# Altium schematic symbol library UWRT_Schematic_Library_2020.SchLib: 766 symbols (part 2 of 8)
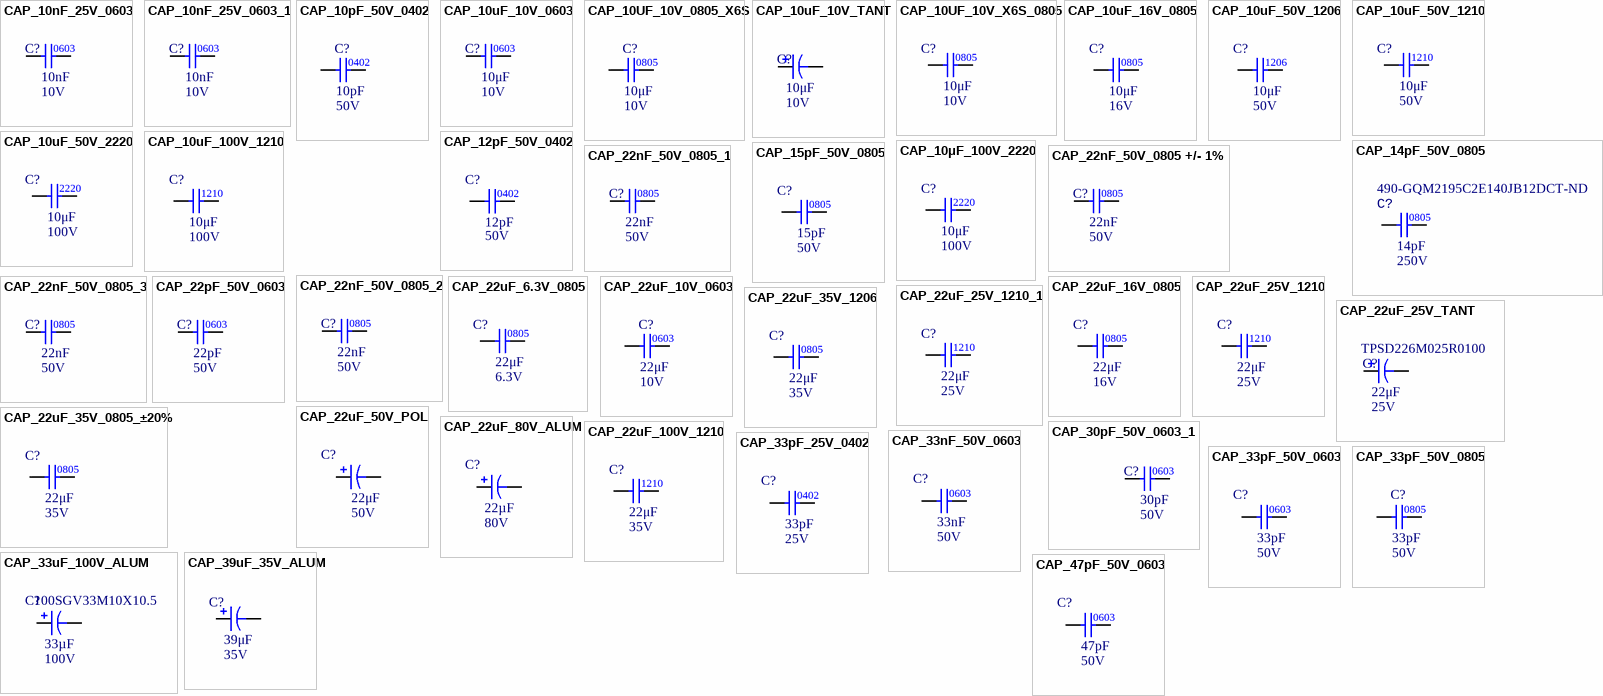
[diagram p26: symbols CAP_10nF_25V_0603 to CAP_47pF_50V_0603]

## CAP_33nF_50V_0603
designator C?  value 33nF  Voltage Rating: 50V
CAP CER 0.033UF 50V X7R 0603; Manufacturer 1: TDK Corporation; Manufacturer Part Number 1: CGA3E2X7R1H333K080AA; Package/Footprint: 0603; Supplier 1: Digi-Key; Mounting Type: SMD; Dielectric: X7R; Supplier Part Number 1: 445-6924-1-ND
footprint CAP0603
pins: 1, 2

## CAP_33pF_25V_0402
designator C?  value 33pF  Voltage Rating: 25V
CAP CER 33PF 25V C0G/NP0 0402; Manufacturer 1: AVX Corporation; Manufacturer Part Number 1: 04023A330JAT2A; Dielectric: C0G; Supplier 1: Digi-Key; Mounting Type: SMD; Supplier Part Number 1: 478-12613-1-ND; Package: 0402
footprint CAP0402 (Chip Capacitor, Body 1x0.5mm, Height 0.35mm, IPC Medium Density)
pins: 1, 2

## CAP_33pF_50V_0603
designator C?  value 33pF  Voltage Rating: 50V
CAP CER 33PF 50V C0G/NP0; Manufacturer 1: Yageo; Manufacturer Part Number 1: CC0603JRNPO9BN330; Package/Footprint: 0603; Dielectric: C0G; Supplier 1: Digi-Key; Mounting Type: SMD; Supplier Part Number 1: 311-1064-1-ND
footprint CAP0603
pins: 1, 2

## CAP_33pF_50V_0805
designator C?  value 33pF  Voltage Rating: 50V
CAP CER 33PF 50V C0G/NP0 0805; Manufacturer 1: Samsung Electro-Mechanics; Manufacturer Part Number 1: CL21C330JBANNNC; Dielectric: C0G/NP0; Mounting Type: SMD; Supplier 1: Digi-Key; Supplier Part Number 1: 1276-1105-1-ND; Package: 0805
footprint CAP0805 (Chip Capacitor, Body 2.0x1.2mm, Height 0.45mm, IPC Medium Density)
pins: 1, 2

## CAP_33uF_100V_ALUM
designator C?  value 33µF  Manufacturer Part Number 1: 100SGV33M10X10.5  Voltage Rating: 100V
CAP. ALUM 33UF 100V 20% SMD; Manufacturer 1: RubyCon; Mounting Type: SMD; Package/Footprint: SMD; Supplier 1: Digi-Key; Supplier Part Number 1: 1189-2387-1-ND
footprint CAP_J-V_8X10P5_RUB-M
pins: 1, 2

## CAP_39uF_35V_ALUM
designator C?  value 39μF  Voltage Rating: 35V
CAP ALUM POLY 39UF 20% 35V SMD; Manufacturer 1: Panasonic; Manufacturer Part Number 1: 35SVPF39M; Supplier 1: Digi-Key; Supplier Part Number 1: P16561CT-ND
footprint RADIAL_PANASONIC_E7 (Size E7 radial surface mount capacitor)
pins: 1, 2

## CAP_47pF_50V_0603
designator C?  value 47pF  Voltage Rating: 50V
CAP CER 47PF 50V C0G/NP0 0603; Manufacturer 1: Samsung Electro-Mechanics; Manufacturer Part Number 1: CL10C470JB8NNNC; Package/Footprint: 0603; Dielectric: C0G; Supplier 1: Digi-Key; Mounting Type: SMD; Supplier Part Number 1: 1276-1037-1-ND
footprint CAP0603
pins: 1, 2

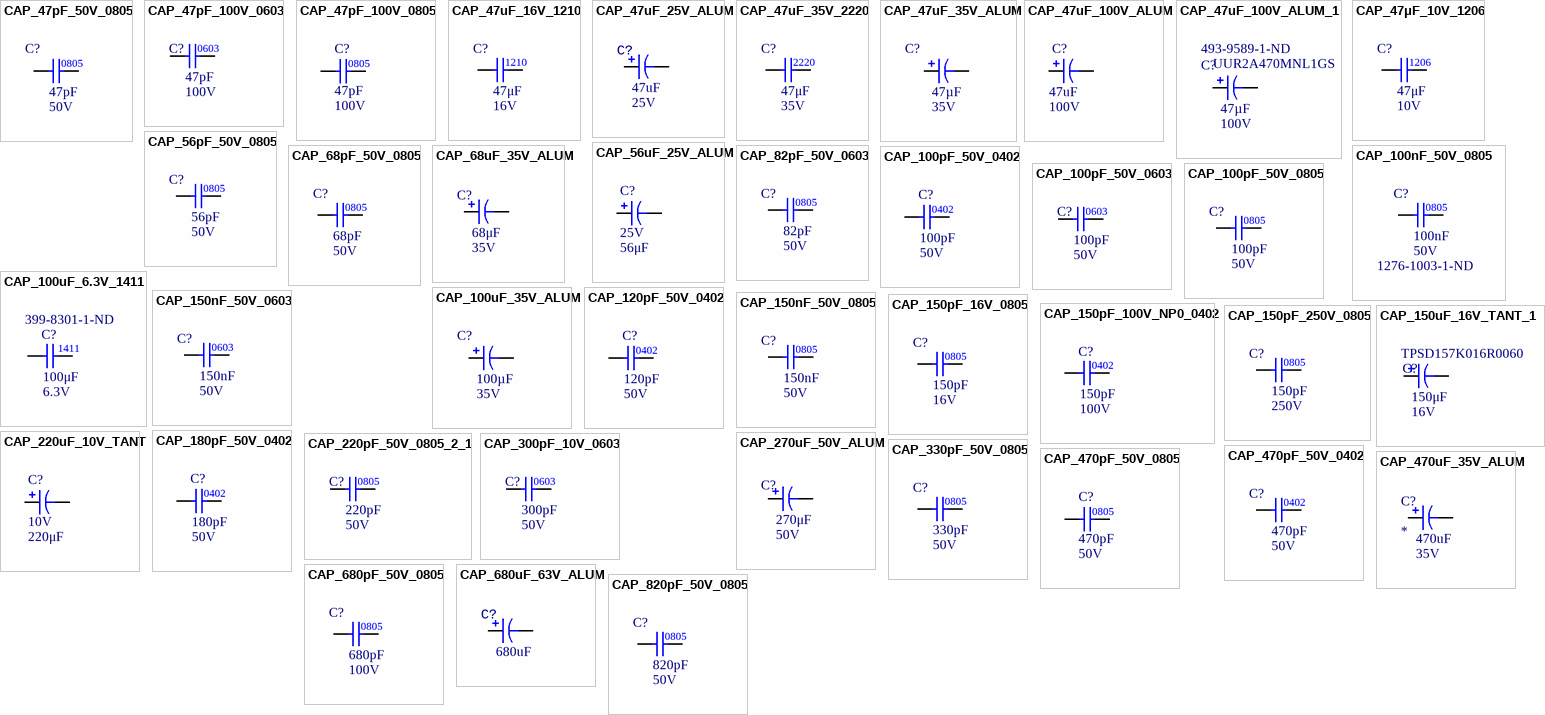
[diagram p4: symbols CAP_47pF_50V_0805 to CAP_820pF_50V_0805]

## CAP_47pF_50V_0805
designator C?  value 47pF  Voltage Rating: 50V
CAP CER 47PF 50V C0G/NPO 0805; Manufacturer 1: YAGEO; Manufacturer Part Number 1: CC0805JRNPO9BN470; Package/Footprint: 0805; Dielectric: C0G; Supplier 1: Digi-Key; Mounting Type: SMD; Supplier Part Number 1: 311-1107-1-ND
footprint CAP0603
footprint CAP0805 (Chip Capacitor, Body 2.0x1.2mm, Height 0.45mm, IPC Medium Density)
pins: 1, 2

## CAP_47pF_100V_0603
designator C?  value 47pF  Voltage Rating: 100V
CAP CER 47PF 100V C0G/NP0 0603; Manufacturer Part Number 1: C0603C470J1GACTU; Manufacturer 1: KEMET; Dielectric: C0G, NP0; Supplier Part Number 1: 399-7917-1-ND; Supplier 1: Digi-Key
footprint CAP0603
pins: 1, 2
text: 0603

## CAP_47pF_100V_0805
designator C?  value 47pF  Voltage Rating: 100V
CAP CER 47PF 100V NPO 0805; Manufacturer 1: Yageo; Manufacturer Part Number 1: AC0805JRNPO0BN470; Package/Footprint: 0805; Supplier 1: Digi-Key; Mounting Type: SMD; Supplier Part Number 1: 311-3131-1-ND
footprint CAP2012
pins: 1, 2

## CAP_47uF_16V_1210
designator C?  value 47μF  Voltage Rating: 16V
CAP CER 47uF 16V X5R 1210; Manufacturer 1: Murata Electronics; Manufacturer Part Number 1: GRM32ER61C476KE15L; Package/Footprint: 1210; Supplier 1: Digi-Key; Supplier Part Number 1: 490-6539-6-ND; Mounting Type: SMD
footprint CAPC3225X270N
pins: 1, 2

## CAP_47uF_25V_ALUM
designator C?  value 47uF  Voltage: 25V
CAP ALUM POLY 47UF 20% 25V SMD; Manufacturer 1: Panasonic Electronic Components; Manufacturer Part Number 1: 25SVPF47M; Supplier 1: DigiKey; Supplier Part Number 1: P16513CT-ND; Mounting Type: SMD
footprint CAP_47uF_25V_ALUM (Aluminum Electrolytic Capacitor, Body 6.60x6.60x6.00mm, IPC Low Density)
pins: 1, 2

## CAP_47uF_35V_2220
designator C?  value 47μF  Voltage Rating: 35V
CAP CER 47UF 35V X7R 2220; Manufacturer 1: TDK Corporation; Manufacturer Part Number 1: CGA9N1X7R1V476M230KC; Package/Footprint: 2220; Supplier 1: Digi-Key; Supplier Part Number 1: 445-CGA9N1X7R1V476M230KCCT-ND; Mounting Type: SMD
footprint CAPC3225X270N
footprint CAP2220
pins: 1, 2

## CAP_47uF_35V_ALUM
designator C?  value 47µF  Voltage Rating: 35V
CAP ALUM POLY HYB 47UF 35V SMD; Manufacturer 1: Cornell Dubilier Electronics (CDE); Manufacturer Part Number 1: HZA476M035D16T-F; Supplier 1: Digi-Key; Supplier Part Number 1: HZA476M035D16T-FCT-ND; Mounting Type: SMD; Package/Footprint: SMD
footprint RADIAL_CORNELL_D
pins: 1, 2

## CAP_47uF_100V_ALUM
designator C?  Voltage Rating: 100V  Capacitance: 47uF
Aluminum Electrolytic Capacitor, Polarized, Aluminum (wet), 100V, 20% +Tol, 20% -Tol, 47uF, Surface Mount, 5454; Manufacturer: Nichicon; Manufacturer Part Number: UCD2A470MNQ1MS; Dielectric Material: Aluminium; Leakage Current: 47uA; Ripple Current: 250mA; Tan Delta: 0.07; ComponentLink1URL: https://datasheet.ciiva.com:443/pdfs/VipMasterIC/IC/NICH/NICH-S-A0003527725/NICH-S-A0003527725-1.pdf?src-supplier=IHS+Markit; ComponentLink1Description: https://datasheet.ciiva.com:443/pdfs/VipMasterIC/IC/NICH/NICH-S-A0003527725/NICH-S-A0003527725-1.pdf?src-supplier=IHS+Markit; ComponentLink2URL: https://datasheet.ciiva.com/11776/0900766b80ebdadd-11776792.pdf?src-supplier=RSComponents; ComponentLink2Description: https://datasheet.ciiva.com/11776/0900766b80ebdadd-11776792.pdf?src-supplier=RSComponents; ComponentLink3URL: https://datasheet.ciiva.com/30526/getdatasheetpartid-513218-30526979.pdf?src-supplier=Verical; ComponentLink3Description: https://datasheet.ciiva.com/30526/getdatasheetpartid-513218-30526979.pdf?src-supplier=Verical; ComponentLink4URL: https://datasheet.ciiva.com/16389/e-cd-16389182.pdf?src-supplier=Future+Electronics; ComponentLink4Description: https://datasheet.ciiva.com/16389/e-cd-16389182.pdf?src-supplier=Future+Electronics; ComponentLink5URL: https://datasheet.ciiva.com/17523/e-cd-17523974.pdf?src-supplier=Avnet+Europe; ComponentLink5Description: https://datasheet.ciiva.com/17523/e-cd-17523974.pdf?src-supplier=Avnet+Europe; ComponentLink6URL: https://datasheet.ciiva.com/6326/e-cd-6326630.pdf?src-supplier=Digi-Key; ComponentLink6Description: https://datasheet.ciiva.com/6326/e-cd-6326630.pdf?src-supplier=Digi-Key; ComponentLink7URL: https://datasheet.ciiva.com/6326/e-cd-6326632.pdf?src-supplier=Digi-Key; ComponentLink7Description: https://datasheet.ciiva.com/6326/e-cd-6326632.pdf?src-supplier=Digi-Key; ComponentLink8URL: https://datasheet.ciiva.com/6326/e-cd-6326634.pdf?src-supplier=Digi-Key; ComponentLink8Description: https://datasheet.ciiva.com/6326/e-cd-6326634.pdf?src-supplier=Digi-Key; Supplier 1: Digi-Key; RoHS: Yes; Category: Aluminum Electrolytic Capacitors; Stock 1: 515; Pricing 1: 1=2.15000, 10=1.69800, 50=1.47140, 100=1.27330 (USD); Mount: Surface Mount; Number of Pins: 2; Package Shape: Cylindrical; Size Code: 7575; Terminal Finish: Copper; Min Operating Temperature: -55°C; Max Operating Temperature: 105°C; JESD-609 Code: e3; Polarity: Polarized; Capacitor Type: Aluminium; Negative Tolerance: 20%; Package Style: SMTMeter; Packaging: Tape and Reel; Positive Tolerance: 20%; Rated DC Voltage (URdc): 100V; Termination: Flat; Length: 14.6mm; Width: 13.6mm; Height: 13.5mm; REACH SVHC: Yes; RoHS Compliant: Yes; Supplier Part Number 1: 493-6201-1-ND
footprint RADIAL_CORNELL_D (Size D radial surface mount capacitor)
pins: 1, 2

## CAP_47uF_100V_ALUM_1
designator C?  value 47µF  Manufacturer Part Number 1: UUR2A470MNL1GS  Voltage Rating: 100V  Supplier Part Number 1: 493-9589-1-ND
CAP ALUM 47UF 20% 100V SMD; Manufacturer 1: Nichicon; Mounting Type: SMD; Package/Footprint: SMD; Supplier 1: Digi-Key
footprint CAP_UCD_10X10_NCH-M
pins: 1, 2

## CAP_47μF_10V_1206
designator C?  value 47μF  Voltage Rating: 10V
CAP CER 47UF 10V X5R 1206; Manufacturer 1: Murata Electronics; Manufacturer Part Number 1: GRM31CR61A476ME15L; Mounting Type: SMD; Package: 1206; Supplier 1: Digi-Key; Supplier Part Number 1: 490-5528-1-ND
footprint CAP1206 (Chip Capacitor, Body 3.2x1.6mm, Height 0.55mm, IPC Medium Density)
pins: 1, 2

## CAP_56pF_50V_0805
designator C?  value 56pF  Voltage Rating: 50V
CAP CER 56PF 50V C0G/NP0; Manufacturer 1: Yageo; Manufacturer Part Number 1: CC0805FRNPO9BN560; Dielectric: C0G, NP0; Supplier 1: Digi-Key; Supplier Part Number 1: 311-4179-1-ND
footprint CAP2012
pins: 1, 2
text: 0805

## CAP_56uF_25V_ALUM
designator C?  value 56μF  Voltage Rating: 25V
CAP ALUM POLY HYB 56UF 25V SMD; Manufacturer Part Number 1: EEH-ZC1E560P; Manufacturer 1: Panasonic Electronic Components; Supplier 1: Digi-Key; Supplier Part Number 1: P15460CT-ND
footprint RADIAL_PANASONIC_D (Size D radial surface mount capacitor)
pins: 1, 2

## CAP_68pF_50V_0805
designator C?  value 68pF  Voltage Rating: 50V
CAP CER 68PF 50V C0G/NP0 0805; Manufacturer 1: Kyocera AVX; Manufacturer Part Number 1: KGM21BCG1H680JT; Package/Footprint: 0805; Supplier 1: Digi-Key; Supplier Part Number 1: 478-KGM21BCG1H680JTDKR-ND
footprint CAP0805 (Chip Capacitor, Body 2.0x1.2mm, Height 0.45mm, IPC Medium Density)
pins: 1, 2

## CAP_68uF_35V_ALUM
designator C?  value 68μF  Voltage Rating: 35V
CAP ALUM 68UF 20% 35V SMD; Manufacturer 1: Nichicon; Manufacturer Part Number 1: UUD1V680MCL1GS; Supplier 1: Digi-Key; Mounting Type: SMD; Supplier Part Number 1: 493-2289-1-ND; Package/Footprint: SMD
footprint RADIAL_NICHION_1V (Size G radial surface mount capacitor)
pins: 1, 2

## CAP_82pF_50V_0603
designator C?  value 82pF  Voltage Rating: 50V
CAP CER 82PF 50V C0G/NPO 0603; Manufacturer 1: Yageo; Manufacturer Part Number 1: CC0603JRNPO9BN820; Dielectric: C0G, NP0; Supplier 1: Digi-Key; Supplier Part Number 1: 311-1068-1-ND
footprint CAP0603
pins: 1, 2
text: 0805

## CAP_100nF_50V_0805
designator C?  value 100nF  Supplier Part Number 1: 1276-1003-1-ND  Voltage Rating: 50V
CAP CER 0.1UF 50V X7R 0805; Manufacturer 1: Samsung Electro-Mechanics; Manufacturer Part Number 1: CL21B104KBCNNNC; Package/Footprint: 0805; Supplier 1: Digi-Key
footprint CAP0805 (Chip Capacitor, Body 2.0x1.2mm, Height 0.45mm, IPC Medium Density)
pins: 1, 2

## CAP_100pF_50V_0402
designator C?  Capacitance: 100pF  Voltage: 50V
CAP CER 100PF 50V X7R 0402; Manufacturer 1: AVX Corporation; Manufacturer Part Number 1: 04025C101KAT2A; Supplier 1: Digi-Key; Supplier Part Number 1: 478-1089-1-ND; Package: 0402
footprint CAP0402 (Chip Capacitor, Body 1x0.5mm, Height 0.35mm, IPC Medium Density)
pins: 1, 2

## CAP_100pF_50V_0603
designator C?  value 100pF  Voltage Rating: 50V
CAP CER 100PF 50V C0G/NP0 0603; Manufacturer Part Number 1: VJ0603A101JXAAC; Manufacturer 1: Vishay Vitramon; Dielectric: C0G, NP0; Supplier Part Number 1: 720-1370-1-ND; Supplier 1: Digi-Key
footprint CAP0603
pins: 1, 2
text: 0603

## CAP_100pF_50V_0805
designator C?  value 100pF  Voltage Rating: 50V
CAP CER 100PF 50V C0G/NP0 0805; Manufacturer 1: KEMET; Manufacturer Part Number 1: C0805C101J5GACTU; Package/Footprint: 0805; Dielectric: C0G, NP0; Mounting Type: SMD; Supplier 1: Digi-Key; Supplier Part Number 1: 399-1122-1-ND
footprint CAP2012
pins: 1, 2

## CAP_100uF_6.3V_1411
designator C?  Capacitance: 100μF  Voltage Rating: 6.3V  Supplier Part Number 1: 399-8301-1-ND
CAP TANT 100UF 6.3V 1411; Manufacturer: KEMET; Manufacturer Part Number: T495B107K006ATE400; Package/Footprint: 1411; Mounting Type: Surface Mount; Supplier 1: Digi-Key
pins: 1, 2

## CAP_100uF_35V_ALUM
designator C?  value 100µF  Voltage Rating: 35V
CAP ALUM 100UF 20% 35V SMD; Manufacturer 1: Rubycon; Manufacturer Part Number 1: 35TKV100M8X10.5; Mounting Type: SMD; Package/Footprint: SMD; Supplier 1: Digi-Key; Supplier Part Number 1: 1189-2074-1-ND
footprint RADIAL_CORNELL_D (Size D radial surface mount capacitor)
pins: 1, 2

## CAP_120pF_50V_0402
designator C?  Capacitance: 120pF  Voltage: 50V
CAP CER 120PF 50V X7R 0402; Manufacturer 1: AVX Corporation; Manufacturer Part Number 1: 04025C121KAT2A; Supplier 1: Digi-Key; Supplier Part Number 1: 478-1090-1-ND; Package: 0402
footprint CAP0402 (Chip Capacitor, Body 1x0.5mm, Height 0.35mm, IPC Medium Density)
pins: 1, 2

## CAP_150nF_50V_0603
designator C?  value 150nF  Voltage Rating: 50V
CAP CER 0.15UF 50V X7R 0603; Manufacturer 1: Yageo; Manufacturer Part Number 1: CC0603KRX7R9BB154; Supplier 1: Digi-Key; Dielectric: X7R; Supplier Part Number 1: 13-CC0603KRX7R9BB154CT-ND
footprint CAP0603
pins: 1, 2
text: 0603

## CAP_150nF_50V_0805
designator C?  value 150nF  Voltage Rating: 50V
CAP CER 0.15UF 50V X7R 0805; Manufacturer 1: Murata Electronics; Manufacturer Part Number 1: CC0603KRX7R9BB154; Supplier 1: Digi-Key; Dielectric: X7R; Supplier Part Number 1: GRM21BR71H154KA01L
footprint CAP0603
footprint CAP0805 (Chip Capacitor, Body 2.0x1.2mm, Height 0.45mm, IPC Medium Density)
pins: 1, 2
text: 0805

## CAP_150pF_16V_0805
designator C?  value 150pF  Voltage Rating: 16V
CAP CER 150PF 16V X7R 0805; Manufacturer 1: Würth Elektronik; Manufacturer Part Number 1: 885012207028; Package/Footprint: 0805; Supplier 1: Digi-Key; Supplier Part Number 1: 732-8028-1-ND
footprint CAP0805 (Chip Capacitor, Body 2.0x1.2mm, Height 0.45mm, IPC Medium Density)
pins: 1, 2

## CAP_150pF_100V_NP0_0402
designator C?  Capacitance: 150pF  Rated DC Voltage (URdc): 100V
CAP CER 150PF 100V C0G/NP0 0402; Manufacturer: Yageo; Manufacturer Part Number: CGA2B2C0G2A151J050BE; Dielectric: X7R; Supplier 1: Digi-Key; Supplier Part Number 1: 445-175654-1-ND; RoHS: Yes; Category: Ceramic Capacitors; Mount: Surface Mount; Package: 0402
footprint CAP0402 (Chip Capacitor, Body 1x0.5mm, Height 0.35mm, IPC Medium Density)
pins: 1, 2

## CAP_150pF_250V_0805
designator C?  value 150pF  Voltage Rating: 250V
CAP CER 150PF 250V C0G/NP0 0805; Manufacturer 1: Murata Electronics; Manufacturer Part Number 1: GRM21A5C2E151JW01D; Dielectric: C0G, NP0; Supplier 1: Digi-Key; Supplier Part Number 1: 490-12755-1-ND
footprint CAP2012
pins: 1, 2
text: 0805

## CAP_150uF_16V_TANT_1
designator C?  value 150μF  Voltage Rating: 16V  Supplier Part Number 1: TPSD157K016R0060
CAP TANT 150UF 10% 16V 2917; Manufacturer 1: Kyocera AVX; Manufacturer Part Number 1: TPSD157K016R0060; Supplier 1: Arrow Electronics
footprint CAP2917
pins: 1, 2

## CAP_180pF_50V_0402
designator C?  Capacitance: 180pF  Voltage: 50V
CAP CER 180PF 50V X7R 0402; Manufacturer 1: AVX Corporation; Manufacturer Part Number 1: 04025C181KAT2A; Supplier 1: Digi-Key; Supplier Part Number 1: 478-1092-1-ND; Package: 0402
footprint CAP0402 (Chip Capacitor, Body 1x0.5mm, Height 0.35mm, IPC Medium Density)
pins: 1, 2

## CAP_220pF_50V_0805_2_1
designator C?  value 220pF  Voltage Rating: 50V
CAP CER 220pF 50V 0805 +/-1%; Manufacturer Part Number 1: CC0805FRNPO9BN221; Manufacturer 1: YAGEO; Supplier Part Number 1: 311-4172-1-ND; Supplier 1: Digi-Key; Mounting Type: SMD; Package: 0805
footprint CAP2012
pins: 1, 2

## CAP_220uF_10V_TANT
designator C?  value 220μF  Voltage Rating: 10V
CAP TANT POLY 220UF 10V 2917; Manufacturer Part Number 1: T55D227M010C0008; Manufacturer 1: Vishay Sprague; Supplier 1: Digi-Key; Supplier Part Number 1: 718-2303-1-ND
footprint CAP2917
pins: 1, 2

## CAP_270uF_50V_ALUM
designator C?  value 270μF  Voltage Rating: 50V
CAP ALUM 270uF 50VDC 20% SMD; Manufacturer 1: Panasonic Electronic Components; Manufacturer Part Number 1: EEE-FN1H271UP; Supplier 1: Digi-Key; Mounting Type: SMD; Supplier Part Number 1: 10-EEE-FN1H271UPCT-ND
footprint RADIAL_PANASONIC_G (Size G radial surface mount capacitor)
pins: 1, 2

## CAP_300pF_10V_0603
designator C?  value 300pF  Voltage Rating: 50V
CAP CER 300PF 50V NP0 0603; Manufacturer Part Number 1: 06035A301JAT2A; Manufacturer 1: KYOCERA AVX; Supplier Part Number 1: 478-10311-1-ND; Supplier 1: Digi-Key; Dielectric: NP0
footprint CAP0603
pins: 1, 2
text: 0603

## CAP_330pF_50V_0805
designator C?  value 330pF  Voltage Rating: 50V
CAP CER 330PF 50V C0G/NPO 0805; Manufacturer 1: Yageo; Manufacturer Part Number 1: CC0805JRNPO9BN331; Package/Footprint: 0805; Supplier 1: Digi-Key; Supplier Part Number 1: 311-1117-1-ND
footprint CAP0805 (Chip Capacitor, Body 2.0x1.2mm, Height 0.45mm, IPC Medium Density)
pins: 1, 2

## CAP_470pF_50V_0402
designator C?  Voltage Rating: 50V  Capacitance: 470pF
CAP CER 470PF 50V X7R 0402; Manufacturer 1: Murata; Manufacturer Part Number 1: GRM155R71H471KA01D; Package/Footprint: 0402; Supplier 1: Digi-Key; Dielectric: X7R; Supplier Part Number 1: 490-1300-1-ND
footprint CAP 0402_1005 (Chip Capacitor, 2-Leads, Body 1.02x0.51mm, IPC Medium Density)
pins: 1, 2

## CAP_470pF_50V_0805
designator C?  value 470pF  Voltage Rating: 50V
CAP CER 470PF 50V X7R 0805; Manufacturer 1: Kyocera AVX; Manufacturer Part Number 1: 08055C471JAT2A; Package/Footprint: 0805; Supplier 1: Digi-Key; Mounting Type: SMD; Supplier Part Number 1: 478-7958-1-ND; Dielectric: X7R
footprint CAP2012
pins: 1, 2

## CAP_470uF_35V_ALUM
designator C?  Voltage: 35V  Capacitance: 470uF
CAP ALUM 470uF 20% 35V SMD; Manufacturer 1: ROQANG; Manufacturer Part Number 1: RVT1V471M1010; Datasheet Link: https://datasheet.lcsc.com/szlcsc/2004031004_ROQANG-RVT1V471M1010_C72519.pdf; Height: 11mm; LCSC Number: C72519
footprint CAPAE1030X1100N
pins: 1, 2

## CAP_680pF_50V_0805
designator C?  value 680pF  Voltage Rating: 100V
CAP CER 680PF 100V C0G/NP0 0805; Manufacturer 1: KYOCERA AVX; Manufacturer Part Number 1: 08051A681JAT2A; Package/Footprint: 0805; Supplier 1: Digi-Key; Supplier Part Number 1: 478-1289-1-ND
footprint CAP0805 (Chip Capacitor, Body 2.0x1.2mm, Height 0.45mm, IPC Medium Density)
pins: 1, 2

## CAP_680uF_63V_ALUM
designator C?  value 680uF
CAP ALUM 680UF 20% 63V RADIAL; Manufacturer 1: United Chemi-Con; Manufacturer Part Number 1: ELXZ630ELL681MM20S; Voltage: 25V; Supplier 1: Digi-Key; Supplier Part Number 1: 565-2050-ND; Mounting Type: SMD
footprint ELXZ630ELL681MM20S (CAP ALUM 680UF 20% 63V RADIAL)
pins: 1, 2

## CAP_820pF_50V_0805
designator C?  Capacitance: 820pF  Voltage Rating: 50V
CAP CER 820PF 50V C0G/NP0 0805; Manufacturer 1: KEMET; Manufacturer Part Number 1: C0805X821J5GAC7800; Package/Footprint: 0805; Supplier 1: Digi-Key; Supplier Part Number 1: 399-19481-1-ND
footprint CAP0805 (Chip Capacitor, Body 2.0x1.2mm, Height 0.45mm, IPC Medium Density)
pins: 1, 2

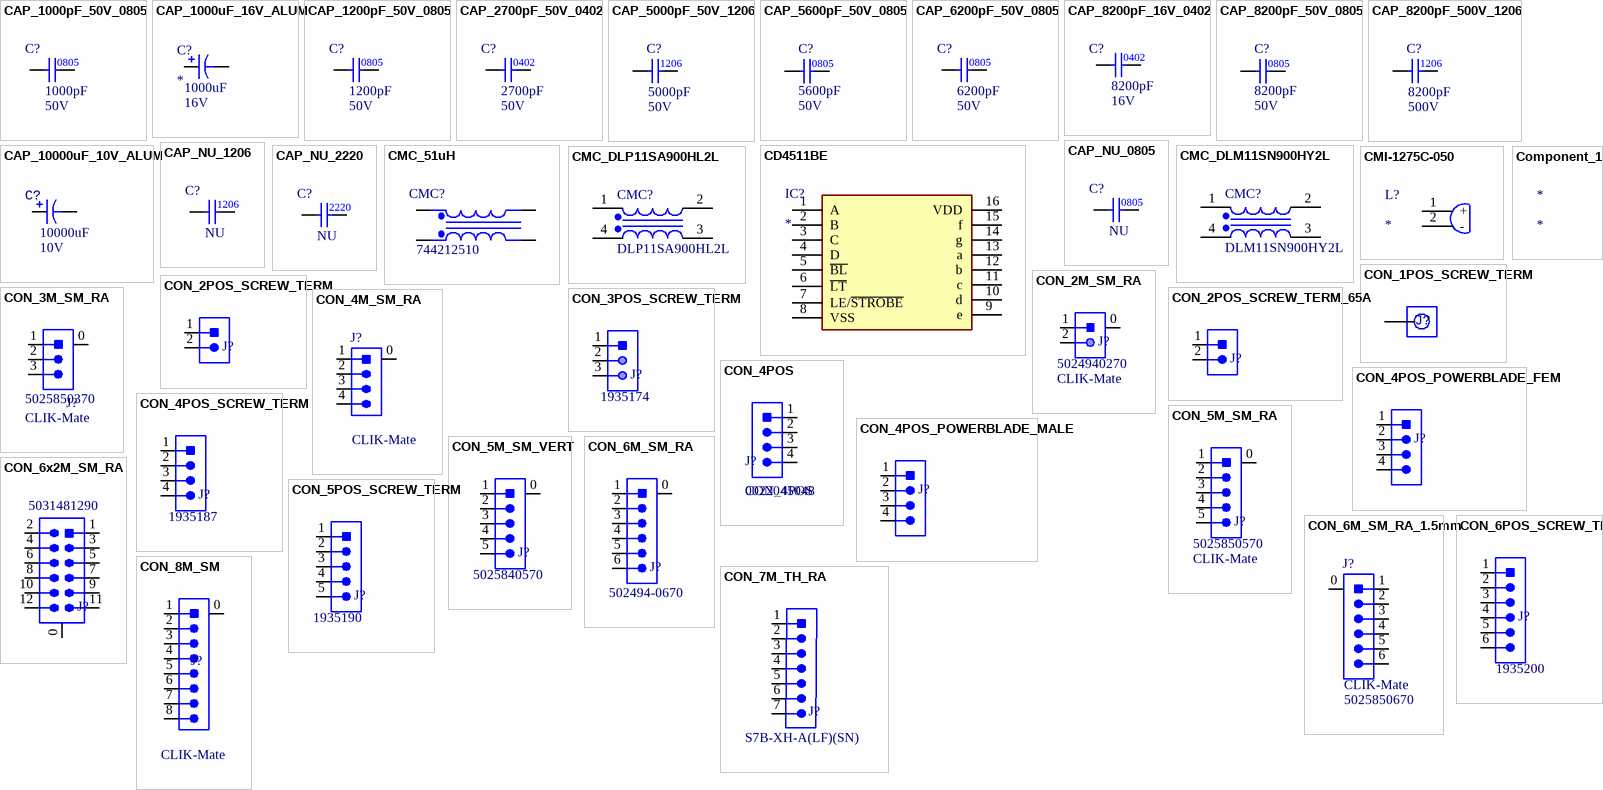
[diagram p5: symbols CAP_1000pF_50V_0805 to CON_8M_SM]

## CAP_1000pF_50V_0805
designator C?  value 1000pF  Voltage Rating: 50V
CAP CER 1000pF 50V X7R 0805; Manufacturer 1: Samsung; Manufacturer Part Number 1: CL21B102KBANNNC; Package/Footprint: 0805; Supplier 1: Digi-Key; Mounting Type: SMD; Supplier Part Number 1: 1276-1020-1-ND; Dielectric: X7R
footprint CAP2012
pins: 1, 2

## CAP_1000uF_16V_ALUM
designator C?  Voltage: 16V  Capacitance: 1000uF
CAP ALUM 1000uF 20% 16V SMD; Manufacturer: Lelon; Manufacturer Part Number 1: VE-102M1CTR-1010; Datasheet Link: https://datasheet.lcsc.com/szlcsc/1811051743_Lelon-VE-102M1CTR-1010_C249474.pdf; Height: 10.5mm; Tolerance: 20%; LCSC Number: C249474
footprint CAPAE1030X1050N
pins: 1, 2

## CAP_1200pF_50V_0805
designator C?  value 1200pF  Voltage Rating: 50V
CAP CER 1200PF 50V X7R 0805; Manufacturer 1: KEMET; Manufacturer Part Number 1: C0805C122K5RAC7800; Package/Footprint: 0805; Supplier 1: Digi-Key; Supplier Part Number 1: 399-C0805C122K5RAC7800CT-ND
footprint CAP0805 (Chip Capacitor, Body 2.0x1.2mm, Height 0.45mm, IPC Medium Density)
pins: 1, 2

## CAP_2700pF_50V_0402
designator C?  Capacitance: 2700pF  Voltage Rating: 50V
CAP CER 2700PF 50V C0G 0805; Manufacturer 1: TDK Corporation; Manufacturer Part Number 1: C2012C0G1H272J060AA; Package: 0805; Supplier 1: Digi-Key; Supplier Part Number 1: 445-7508-1-ND
footprint CAP0402 (Chip Capacitor, Body 1x0.5mm, Height 0.35mm, IPC Medium Density)
pins: 1, 2
text: 0402

## CAP_5000pF_50V_1206
designator C?  Voltage Rating: 50V  Capacitance: 5000pF
CAP CER 5000pF 50V X7R 1206; Manufacturer 1: Kyocera AVX; Manufacturer Part Number 1: 12065C502JAT2A; Supplier 1: Digi-Key; Supplier Part Number 1: 478-11953-1-ND; Dielectric: X7R
footprint CAP1206 (Chip Capacitor, Body 3.2x1.6mm, Height 0.55mm, IPC Medium Density)
pins: 1, 2
text: 1206

## CAP_5600pF_50V_0805
designator C?  Capacitance: 5600pF  Voltage Rating: 50V
CAP CER 5600PF 50V C0G 0805; Manufacturer 1: TDK Corporation; Manufacturer Part Number 1: CGA4C2C0G1H562J060AA; Package/Footprint: 0805; Mounting Type: SMD; Supplier 1: Digi-Key; Supplier Part Number 1: 445-6944-1-ND; Dielectric: C0G
pins: 1, 2

## CAP_6200pF_50V_0805
designator C?  Capacitance: 6200pF  Voltage Rating: 50V
CAP CER 6200PF 50V C0G/NP0 0805; Manufacturer 1: Murata Electronics; Manufacturer Part Number 1: GRM2195C1H622JA01D; Package/Footprint: 0805; Supplier 1: Digi-Key; Supplier Part Number 1: 490-1637-1-ND
footprint CAP0805 (Chip Capacitor, Body 2.0x1.2mm, Height 0.45mm, IPC Medium Density)
pins: 1, 2

## CAP_8200pF_16V_0402
designator C?  Voltage Rating: 16V  Capacitance: 8200pF
CAP CER 8200PF 16V X7R 0402; Manufacturer 1: Murata; Manufacturer Part Number 1: GRM155R71C822KA01D; Dielectric: X7R; Supplier 1: Digi-Key; Supplier Part Number 1: 490-6338-1-ND; Package: 0402
footprint CAP0402 (Chip Capacitor, Body 1x0.5mm, Height 0.35mm, IPC Medium Density)
pins: 1, 2

## CAP_8200pF_50V_0805
designator C?  Capacitance: 8200pF  Voltage Rating: 50V
CAP CER 8200PF 50V X7R 0805; Manufacturer: YAGEO; Manufacturer Part Number: CC0805KRX7R9BB822; Mounting Type: SMD; Package: 0805; Supplier 1: Digi-Key; Supplier Part Number 1: 311-4331-1-ND; Dielectric: X7R
footprint CAP0805 (Chip Capacitor, Body 2.0x1.2mm, Height 0.45mm, IPC Medium Density)
pins: 1, 2

## CAP_8200pF_500V_1206
designator C?  value 8200pF  Voltage Rating: 500V
CAP CER 8200PF 500V C0G 1206; Manufacturer 1: KEMET; Manufacturer Part Number 1: C1206C822JCGACAUTO; Dielectric: C0G, NP0; Supplier 1: Digi-Key; Supplier Part Number 1: 399-14847-1-ND
footprint CAP1206 (Chip Capacitor, Body 3.2x1.6mm, Height 0.55mm, IPC Medium Density)
pins: 1, 2
text: 1206

## CAP_10000uF_10V_ALUM
designator C?  value 10000uF  Voltage Rating: 10V
CAP ALUM 10000UF 20% 10V RADIAL; Manufacturer 1: Nichicon; Manufacturer Part Number 1: URS1A103MHD1TN; Supplier 1: Digi-Key; Mounting Type: TH; Package: TH; Supplier Part Number 1: 493-12364-1-ND; Verified: No
footprint CAP_UBY_18X25_NC
pins: 1, 2

## CAP_NU_0805
designator C?  value NU
PLACEHOLDER CAPACITOR; Mounting Type: SMD; Package: 0805
footprint CAP0805 (Chip Capacitor, Body 2.0x1.2mm, Height 0.45mm, IPC Medium Density)
pins: 1, 2

## CAP_NU_1206
designator C?  value NU
PLACEHOLDER CAPACITOR; Mounting Type: Surface Mount; Package: 1206
footprint CAP1206 (Chip Capacitor, Body 3.2x1.6mm, Height 0.55mm, IPC Medium Density)
pins: 1, 2

## CAP_NU_2220
designator C?  value NU
PLACEHOLDER CAPACITOR; Mounting Type: Surface Mount; Package: 1206
footprint CAP1206 (Chip Capacitor, Body 3.2x1.6mm, Height 0.55mm, IPC Medium Density)
footprint CAP2220
pins: 1, 2
text: 2220

## CD4511BE
designator IC?
Integrated Circuit; Manufacturer_Name: Texas Instruments; Manufacturer Part Number 1: CD4511BE; Datasheet Link: http://www.ti.com/lit/gpn/cd4511b; Height: 5.08mm; Mouser Part Number: 595-CD4511BE; Mouser Price/Stock: https://www.mouser.co.uk/ProductDetail/Texas-Instruments/CD4511BE?qs=pt%2FIv5r0EPdhGGYgwfpYEw%3D%3D; Arrow Part Number: CD4511BE; Arrow Price/Stock: https://www.arrow.com/en/products/cd4511be/texas-instruments?region=nac
footprint DIP794W53P254L1930H508Q16N
pins: 1 A, 2 B, 3 C, 4 D, 5 ~{BL}, 6 ~{LT}, 7 LE/~{STROBE}, 8 VSS, 9 e, 10 d, 11 c, 12 b, 13 a, 14 g, 15 f, 16 VDD

## CMC_51uH
designator CMC?  Manufacturer Part Number 1: 744212510  (hidden comment: CMC_51uH)
CMC 51uH 300MA 2LN SMD; Manufacturer 1: Wurth Electronics; DC Resistance (DCR): 160mR; Test Frequency: 100kHz; Inductance Tolerance: 50%; Voltage Rating (DC): 80V; Number of Lines: 2; Impedance: 300R; Supplier 1: Digi-Key; Package/Footprint: SMD; Number of Pins: 4; Current: 300mA; Max DC Current: 300mA; Mounting Type: SMD; Current Rating: 300mA; Inductance: 51uH; ComponentLink7URL: https://datasheet.ciiva.com/6216/744212510-6216348.pdf?src-supplier=Digi-Key; ComponentLink7Description: https://datasheet.ciiva.com/6216/744212510-6216348.pdf?src-supplier=Digi-Key; ComponentLink8URL: https://datasheet.ciiva.com/7764/1735560-7764951.pdf?src-supplier=Element14; ComponentLink8Description: https://datasheet.ciiva.com/7764/1735560-7764951.pdf?src-supplier=Element14; Supplier Part Number 1: 732-3941-1-ND
footprint 744212510 (CMC HORIZONTAL 4 J-LEAD)
pins: 1 Pri+, 3 Sec+, 4 Sec-, 5 Pri-

## CMC_DLM11SN900HY2L
designator CMC?  Manfuacturer Part Number 1: DLM11SN900HY2L
CMC 100MA 2LN 90 OHM SMD; Manufacturer 1: Murata Electronics; DC Resistance (DCR) (Max): 1.38Ohm; Voltage Rating - DC: 5V; Supplier 1: Digi-Key; Supplier Part Number 1: 490-11941-1-ND; Current Rating (Max): 100mA; Package: 0504
footprint FIL_DLM11SN900HY2L
pins: 1, 2, 3, 4

## CMC_DLP11SA900HL2L
designator CMC?  Manfuacturer Part Number 1: DLP11SA900HL2L
CMC 150MA 2LN 90 OHM SMD; Manufacturer 1: Murata Electronics; DC Resistance (DCR) (Max): 1.75Ohm; Voltage Rating - DC: 5V; Supplier 1: Digi-Key; Supplier Part Number 1: 490-6035-1-ND; Current Rating (Max): 150mA; Package: 0504
footprint FIL_DLP11SA900HL2L
pins: 1, 2, 3, 4

## CMI-1275C-050
designator L?
Inductor; Manufacturer_Name: CUI Inc.; Manufacturer Part Number 1: CMI-1275C-050; Datasheet Link: https://componentsearchengine.com/Datasheets/1/CMI-1275C-050.pdf; Height: 8mm; Mouser Part Number: 490-CMI-1275C-050; Mouser Price/Stock: https://www.mouser.co.uk/ProductDetail/CUI-Devices/CMI-1275C-050?qs=qCxwlXJ4fnyWvfqXc%252BNqAA%3D%3D; Arrow Part Number: CMI-1275C-050; Arrow Price/Stock: https://www.arrow.com/en/products/cmi-1275c-050/cui-inc
footprint CMI1275C050
pins: 1 +, 2 -

## Component_1
designator *

## CON_1POS_SCREW_TERM
designator J?  (value not drawn)
TERM SCREW 6-32 4 PIN PCB; Manufacturer 1: Keystone Electronics; Manufacturer Part Number 1: 7701; Package/Footprint: TH; Supplier 1: Digi-Key; Mounting Type: TH; Supplier Part Number 1: 36-7701-ND
footprint 7701_KEYSTONE (Through hole screw terminal footprint)
pins: 1

## CON_2M_SM_RA
designator J?  Family: CLIK-Mate  Manufacturer Part Number 1: 5024940270  (hidden comment: CON_2M_SM_RA)
CONN HEADER SMD RIGHT ANGLE 2MM PITCH; Manufacturer 1: Molex; Supplier 1: Digi-Key; Supplier Part Number 1: WM15810CT-ND
footprint MOLEX-5024940270 (Molex 5024940670 2 pin SMD RA connector)
pins: 0, 1, 2

## CON_2POS_SCREW_TERM
designator J?  (value not drawn)
TERM BLK 2POS SIDE ENTRY 5MM; Manufacturer 1: Phoenix Contact; Manufacturer Part Number 1: 1935161; Package/Footprint: SMD; Supplier 1: Digi-Key; Mounting Type: TH; Supplier Part Number 1: 277-1667-ND
footprint 1935161
pins: 1, 2

## CON_2POS_SCREW_TERM_65A
designator J?, comment CON_2POS_SCREW_TERM  (value not drawn)
PCB TERMINAL BLOCKS RISING CLAMP; Manufacturer 1: Amphenol Anytek; Manufacturer Part Number 1: VP0265840000G; Supplier 1: Digi-Key; Mounting Type: TH; Package/Footprint: TERMINAL; Supplier Part Number 1: 1818-VP0265840000G-ND
footprint CON_2POS_SCREW_TERM_65A
footprint VP0265840000G (PCB TERMINAL BLOCKS RISING CLAMP)
pins: 1, 2

## CON_3M_SM_RA
designator J?  Family: CLIK-Mate  Manufacturer Part Number 1: 5025850370  (hidden comment: CON_3M_SM_RA)
CONN RCPT 3POS 0.059 TIN SMD R/A; Manufacturer 1: Molex; Current Rating: 2A; Voltage Rating: 100V; Pitch: 1.5mm; Supplier 1: Digi-Key; Mounting Type: SMD; Package/Footprint: SMD; Orientation: Right Angle; Supplier Part Number 1: WM12831CT-ND
footprint MOLEX-5025850370
pins: 0, 1, 2, 3

## CON_3POS_SCREW_TERM
designator J?  Manufacturer Part Number 1: 1935174  (hidden comment: CON_3POS_SCREW_TERM)
TERM BLK 3POS SIDE ENTRY 5MM; Manufacturer 1: Phoenix Contact; Package/Footprint: TH; Voltage Rating: 250V; Current Rating: 17.5A; Supplier 1: Digi-Key; Mounting Type: TH; Orientation: Straight; Pitch: 5mm; Supplier Part Number 1: 277-1578-ND
footprint 1935174 (5 MM PITCH)
pins: 1, 2, 3

## CON_4M_SM_RA
designator J?  Family: CLIK-Mate  (hidden comment: CON_4M_SM_RA)
CONN HEADER SMD RIGHT ANGLE 1.5 MM PITCH; Supplier 1: Digi-Key; Supplier Part Number 1: WM9449CT-ND; Package/Footprint: SMD; Mounting Type: SMD
footprint MOLEX-5025850470
pins: 0, 1, 2, 3, 4

## CON_4POS
designator J?  Manufacturer Part Number: 0022045048
CONN HEADER VERT 4POS 2.54MM; Manufacturer: Molex; Supplier 1: Digi-Key; Supplier Part Number 1: 0022045048-ND; RoHS: Yes; Category: Headers and Wire Housings; Pricing 1: 16000=0.12858 (USD); ComponentLink1URL: https://datasheet.ciiva.com/6839/022045032-sd-6839882.pdf?src-supplier=Digi-Key; ComponentLink1Description: https://datasheet.ciiva.com/6839/022045032-sd-6839882.pdf?src-supplier=Digi-Key
pins: 1   , 2, 3, 4

## CON_4POS_POWERBLADE_FEM
designator J?, comment CON_2POS_SCREW_TERM  (value not drawn)
VERTICAL MINI-POWER SKT; Manufacturer 1: Samtec Inc.; Manufacturer Part Number 1: MPS-04-7.70-01-L-V; Package/Footprint: PowerStrip™ 30 MPS; Supplier 1: Digi-Key; Mounting Type: TH; Supplier Part Number 1: SAM9721-ND
footprint MPS-04-7.70-01-L-V
pins: 1, 2, 3 1, 4 2

## CON_4POS_POWERBLADE_MALE
designator J?, comment CON_2POS_SCREW_TERM  (value not drawn)
CONN HDR 4POS 5MM R/A SLDR; Manufacturer 1: Samtec Inc.; Manufacturer Part Number 1: MPT-04-01-01-L-RA-SD; Package/Footprint: PowerStrip™ 30 MTS; Supplier 1: Digi-Key; Mounting Type: TH; Supplier Part Number 1: SAM9727-ND
footprint MPT-04-01-01-L-RA-SD
pins: 1, 2, 3 1, 4 2

## CON_4POS_SCREW_TERM
designator J?  Manufacturer Part Number 1: 1935187  (hidden comment: CON_4POS_SCREW_TERM)
TERM BLK 4POS SIDE ENTRY 5MM; Manufacturer 1: Phoenix Contact; Wire Gauge: 12-26AWG; Package/Footprint: TH; Screw Thread: M2.6; Supplier Part Number 1: 277-1579-ND; Supplier 1: Digi-Key; Pitch: 5mm; Mounting Type: TH
footprint 1935187
pins: 1, 2, 3, 4

## CON_5M_SM_RA
designator J?  Family: CLIK-Mate  Manufacturer Part Number 1: 5025850570  (hidden comment: CON_5M_SM_RA)
CONN HEADER SMD RIGHT ANGLE 1.5MM PITCH; Manufacturer 1: Molex; Current Rating: 2A; Supplier 1: Digi-Key; Mounting Type: SMD; Orientation: Right Angle; Supplier Part Number 1: WM14469CT-ND; Package/Footprint: SMD
footprint MOLEX-5025850570
pins: 0, 1, 2, 3, 4, 5

## CON_5M_SM_VERT
designator J?  Manufacturer Part Number 1: 5025840570  (hidden comment: CON_5M_SM_VERT)
CONN HEADER SMD VERTICAL 1.5MM PITCH; Manufacturer 1: Molex; Current Rating: 2A; Voltage Rating: 100V; Supplier 1: Digi-Key; Orientation: Vertical; Pitch: 1.5mm; Supplier Part Number 1: WM14463CT-ND
footprint MOLEX-5025840570 (Molex 5024940670 12 pin 1.5 mm pitch SMD vertical connector)
pins: 0, 1, 2, 3, 4, 5

## CON_5POS_SCREW_TERM
designator J?  Manufacturer Part Number 1: 1935190  (hidden comment: CON_5POS_SCREW_TERM)
TERM BLK 5POS SIDE ENTRY 5MM; Manufacturer 1: Phoenix Contact; Package/Footprint: TH; Supplier 1: Digi-Key; Mounting Type: TH; Supplier Part Number 1: 277-1580-ND
footprint 1935190
pins: 1, 2, 3, 4, 5

## CON_6M_SM_RA
designator J?  Manufacturer Part Number 1: 502494-0670  (hidden comment: CON_6M_SM_RA)
CONN HEADER SMD RIGHT ANGLE 2MM PITCH; Manufacturer 1: Molex; Current Rating: 3A; Voltage Rating: 250V; Supplier 1: Digi-Key; Orientation: Right Angle; Pitch: 2mm; Supplier Part Number 1: WM2283CT-ND
footprint MOLEX-5024940670 (Molex 5024940670 6 pin 2mm pitch SMD RA connector)
pins: 0, 1, 2, 3, 4, 5, 6

## CON_6M_SM_RA_1.5mm
designator J?  Manufacturer Part Number 1: 5025850670  Family: CLIK-Mate
CONN HEADER SMD RIGHT ANGLE 1.5 MM PITCH; Manufacturer 1: Molex; Supplier 1: Digi-Key; Supplier Part Number 1: WM12832CT-ND; Package/Footprint: SMD; Mounting Type: SMD
footprint MOLEX-5025850670
pins: 0, 1, 2, 3, 4, 5, 6

## CON_6POS_SCREW_TERM
designator J?  Manufacturer Part Number 1: 1935200  (hidden comment: CON_6POS_SCREW_TERM)
TERM BLK 6POS SIDE ENTRY 5MM; Manufacturer 1: Phoenix Contact; Wire Gauge: 12-26AWG; Package/Footprint: TH; Screw Thread: M2.6; Supplier Part Number 1: 277-1581-ND; Supplier 1: Digi-Key; Pitch: 5mm; Mounting Type: TH
footprint 1935200
pins: 1, 2, 3, 4, 5, 6

## CON_6x2M_SM_RA
designator J?  Manufacturer Part Number 1: 5031481290  (hidden comment: CON_6x2M_SM_RA)
CONN HEADER SMD RIGHT ANGLE 1.5MM PITCH; Manufacturer 1: Molex; Voltage Rating: 100V; Current Rating: 1A; Supplier 1: Digi-Key; Mounting Type: SMD; Package/Footprint: SMD; Orientation: Right Angle; Pitch: 1.5mm; Supplier Part Number 1: WM14476CT-ND
footprint MOLEX-5031481290 (Molex 5024940670 12 pin 1.5 mm pitch SMD RA connector)
pins: 0, 1, 2, 3, 4, 5, 6, 7, 8, 9, 10, 11, 12

## CON_7M_TH_RA
designator J?  Manufacturer Part Number 1: S7B-XH-A(LF)(SN)  (hidden comment: CON_7M_TH_RA)
CONN HEADER XH SIDE 7POS 2.5MM; Manufacturer 1: JST Sales America Inc.; Current Rating: 3A; Voltage Rating: 250V; Supplier 1: Digi-Key; Orientation: Right Angle; Pitch: 2.5mm; Supplier Part Number 1: 455-2240-ND
footprint JST_S7B-XH-A(LF)(SN)
pins: 1, 2, 3, 4, 5, 6, 7 6

## CON_8M_SM
designator J?, comment Family: CLIK-Mate  (hidden comment: CON_8M_SM_RA)
CONN HEADER SMD VERTICAL 2 MM PITCH; Current Rating: 3A; Voltage Rating: 250V; Pitch: 1.5mm; Supplier 1: Digi-Key; Mounting Type: SMD; Package/Footprint: SMD; Orientation: Right Angle; Supplier Part Number 1: WM14471CT-ND
footprint MOLEX-5024430870
pins: 0, 1, 2, 3, 4, 5, 6, 7 6, 8 6

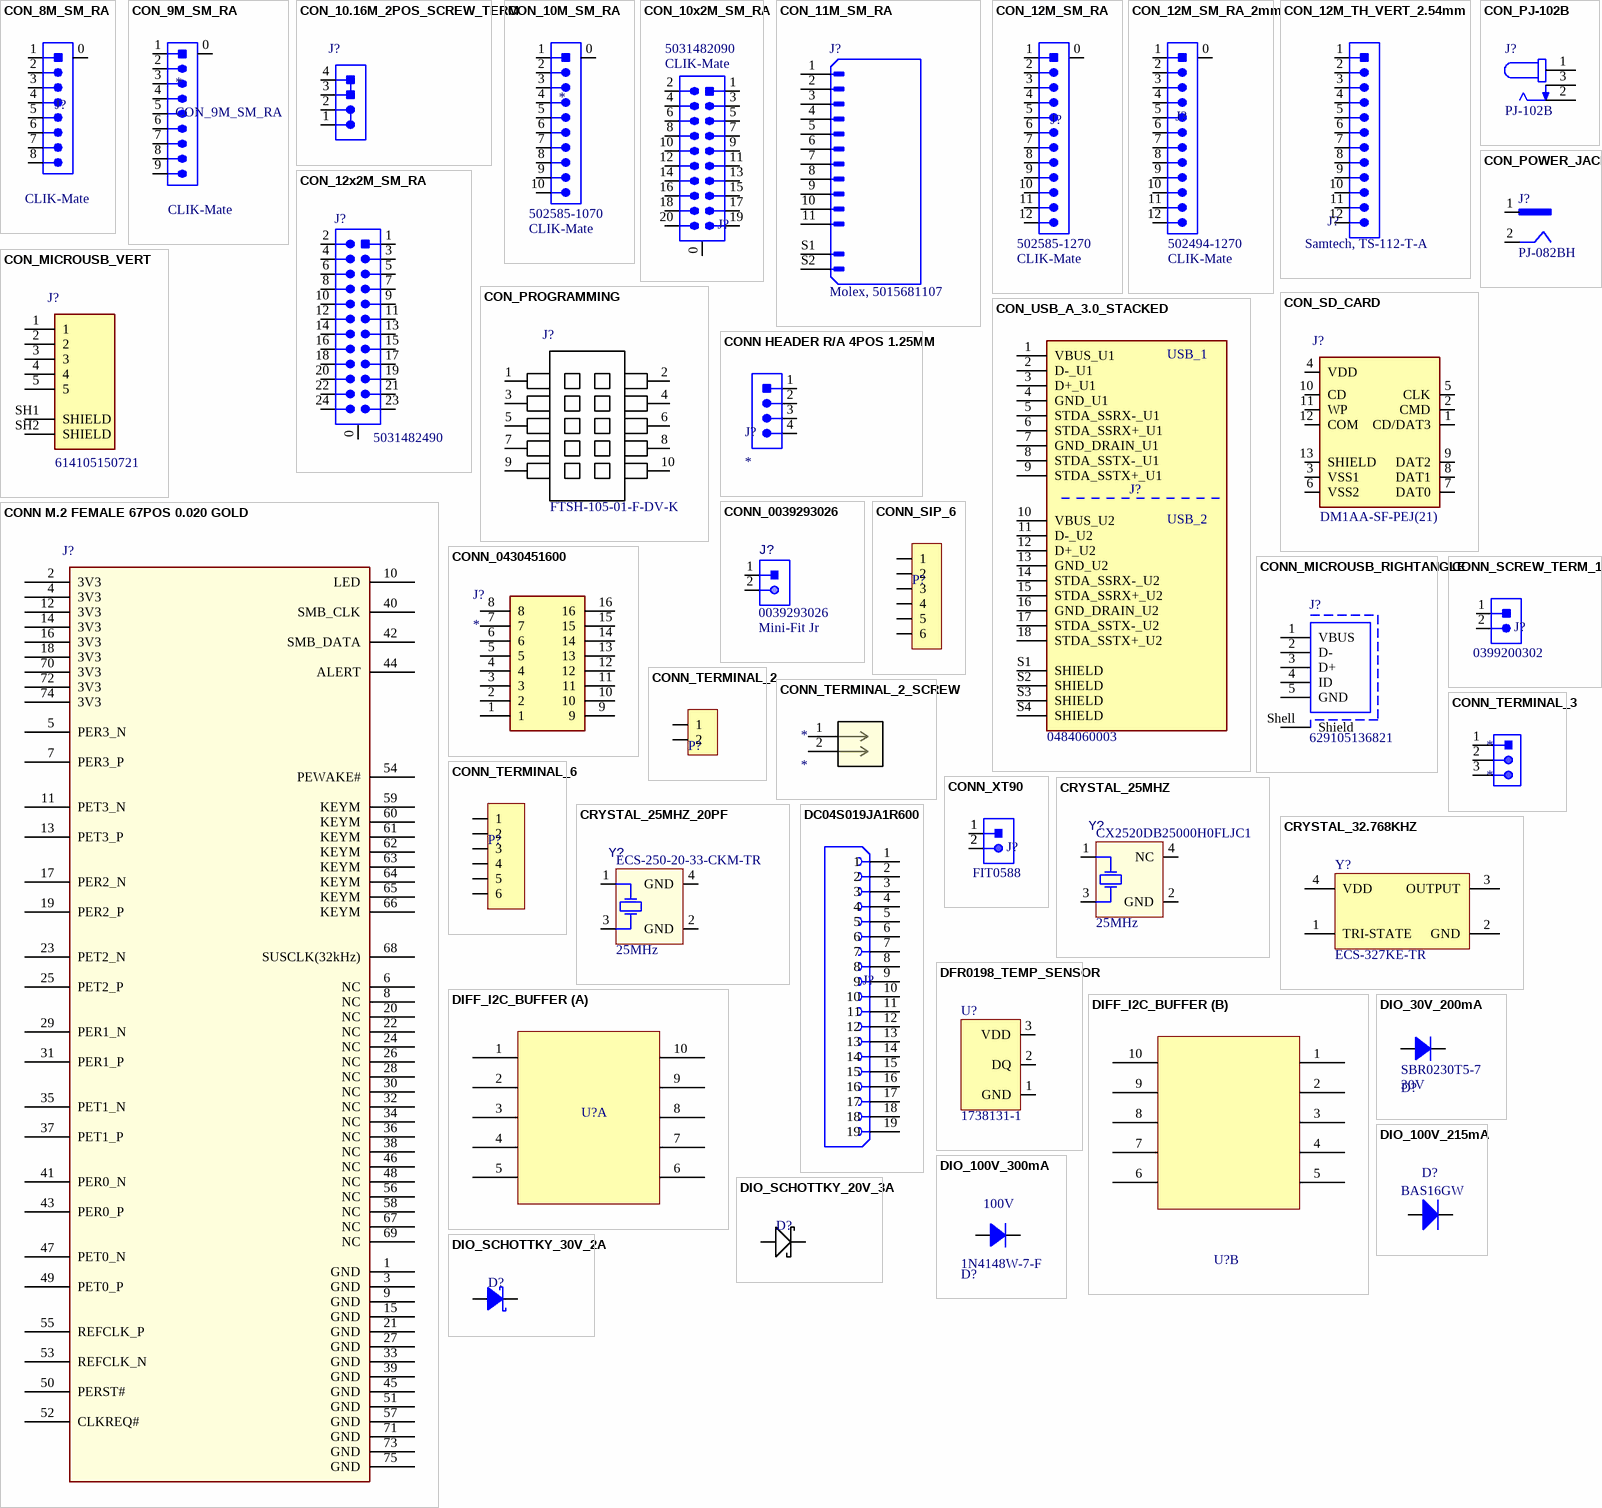
[diagram p6: symbols CON_8M_SM_RA to DIO_SCHOTTKY_30V_2A]

## CON_8M_SM_RA
designator J?  Family: CLIK-Mate  (hidden comment: CON_8M_SM_RA)
CONN HEADER SMD RIGHT ANGLE 1.5 MM PITCH; Current Rating: 2A; Voltage Rating: 100V; Pitch: 1.5mm; Supplier 1: Digi-Key; Mounting Type: SMD; Package/Footprint: SMD; Orientation: Right Angle; Supplier Part Number 1: WM14471CT-ND
footprint MOLEX-5025850870
pins: 0, 1, 2, 3, 4, 5, 6, 7 6, 8 6

## CON_9M_SM_RA
designator *  Family: CLIK-Mate
CONN RCPT 9POS CLIK-MATE 0.059 TIN SMD R/A; Current Rating: 2A; Pitch: 1.5mm; Supplier 1: Digi-Key; Orientation: Right Angle; Supplier Part Number 1: WM20816CT-ND
footprint Molex-5025850970
pins: 0, 1, 2, 3, 4, 5, 6, 7 6, 8 6, 9

## CON_10.16M_2POS_SCREW_TERM
designator J?  (value not drawn)
TERM BLK 2P SIDE ENT 10.16MM PCB; Manufacturer 1: Amphenol Anytek; Manufacturer Part Number 1: VP0265540000G; Package/Footprint: TERMINAL; Supplier 1: Digi-Key; Mounting Type: TH; Supplier Part Number 1: VP0265540000G-ND
footprint VP0265540000G (TERM BLK 2P SIDE ENT 10.16MM PCB)
pins: 1, 2, 3, 4

## CON_10M_SM_RA
designator *  Family: CLIK-Mate  Manufacturer Part Number 1: 502585-1070  (hidden comment: CON_10M_SM_RA)
CONN HEADER SMD RIGHT ANGLE 1.5 MM PITCH; Manufacturer 1: Molex; Current Rating: 2A; Voltage Rating: 100V; Pitch: 1.5mm; Supplier 1: Digi-Key; Supplier Part Number 1: WM14472CT-ND; Orientation: Right Angle
footprint MOLEX-5025851070
pins: 0, 1, 2, 3, 4, 5, 6, 7 6, 8 6, 9, 10

## CON_10x2M_SM_RA
designator J?  Family: CLIK-Mate  Manufacturer Part Number 1: 5031482090  (hidden comment: CON_10x2M_SM_RA)
CONN HEADER SMD RIGHT ANGLE 1.5MM PITCH; Manufacturer 1: Molex; Voltage Rating: 100V; Current Rating: 1A; Supplier 1: Digi-Key; Orientation: Right Angle; Pitch: 1.5mm; Supplier Part Number 1: WM9451CT-ND
footprint MOLEX-5031482090 (Molex 5024940670 20 pin 1.5 mm pitch SMD RA connector)
pins: 0, 1, 2, 3, 4, 5, 6, 7, 8, 9, 10, 11, 12, 13, 14, 15, 16, 17, 18, 19, 20

## CON_11M_SM_RA
designator J?, comment MP: Molex, 5015681107  (hidden comment: CON_12M_SM_RA)
CONN HEADER SMD RIGHT ANGLE 1MM PITCH; Availability: Unavailable; Value: *; Package: None; Price: None; Supplier 1: Digi-Key; Supplier Part Number 1: WM7902CT-ND
footprint MOLEX-5015681107
pins: 1, 2, 3, 4, 5, 6, 7, 8, 9, 10, 11, S1 SHIELD1, S2 SHIELD2

## CON_12M_SM_RA
designator J?  Family: CLIK-Mate  Manufacturer Part Number 1: 502585-1270  (hidden comment: CON_12M_SM_RA)
CONN HEADER SMD RIGHT ANGLE 1.5MM PITCH; Manufacturer 1: Molex; Current Rating: 2A; Voltage Rating: 100V; Supplier 1: Digi-Key; Mounting Type: SMD; Package/Footprint: SMD; Orientation: Right Angle; Pitch: 1.5mm; Supplier Part Number 1: WM14473CT-ND
footprint MOLEX-5025851270
pins: 0, 1, 2, 3, 4, 5, 6, 7 6, 8 6, 9, 10, 11, 12

## CON_12M_SM_RA_2mm
designator J?  Family: CLIK-Mate  Supplier Part Number 1: 502494-1270  (hidden comment: CON_12M_SM_RA_2mm)
2.00mm Pitch CLIK-Mate Wire-to-Board PCB Receptacle, Single Row, Right-Angle, 12 Circuits; Manufacturer: Molex; Number of Contacts: 12; Contact Resistance: 20mR; Current Rating: 3A; Mating Cycles: 30; Voltage Rating (AC): 250V; Insulation Resistance: 1GR; Pitch: 2mm; Glow Wire Compliant: Non-compliant; Supplier 1: Mouser; Manufacturer Part Number: 502494-1270; RoHS: Yes; Category: Headers and Wire Housings; Stock 1: 1900; Pricing 1: 950=0.62780, 1900=0.61060, 3800=0.56580, 5700=0.53600, 7600=0.52000 (USD); Mount: Surface Mount; Color: Natural,White; Contact Plating: Tin; Contact Material: Copper Alloy; Housing Material: PBT; Material: Polybutylene; Housing Color: Natural; Min Operating Temperature: -25°C; Max Operating Temperature: 85°C; Number of Rows: 1; Termination: Solder; Fastening Type: Latch; Packaging: Tape and Reel; Contact Gender: Female; Package Quantity: 950; Connector Type: Receptacle; Number of Positions: 12; Max Voltage Rating (AC): 250V; Max Voltage Rating (DC): 250V; Gender: Receptacle; Orientation: Right Angle; Number of Circuits: 12; Series: 502494; Contact Type: Center Strip Contact; Length: 28mm; Lead Pitch: 2mm; Depth: 6.85mm; Radiation Hardening: No; REACH SVHC: Unknown; Flammability Rating: UL94 V-0
footprint MOLEX-5024941270
pins: 0, 1, 2, 3, 4, 5, 6, 7 6, 8 6, 9, 10, 11, 12

## CON_12M_TH_VERT_2.54mm
designator J?, comment Samtech, TS-112-T-A
CONN HEADER THROUGH HOLE VERTICAL 2.54MM PITCH; Supplier 1: Digi-Key; Supplier Part Number 1: SAM12216-ND; Manufacturing Part Number: Samtech, TS-112-T-A
footprint Samtech-TS-112-T-A (Samtech CONN HEADER VERT 12POS 2.54MM)
pins: 1, 2, 3, 4, 5, 6, 7 1, 8 2, 9 3, 10 4, 11 5, 12 6

## CON_12x2M_SM_RA
designator J?  Manufacturer Part Number 1: 5031482490  (hidden comment: CON_12x2M_SM_RA)
CONN HEADER SMD RIGHT ANGLE 1.5MM PITCH; Manufacturer 1: Molex; Voltage Rating: 100V; Current Rating: 2A; Supplier 1: Digi-Key; Mounting Type: SMD; Package/Footprint: SMD; Orientation: Right Angle; Pitch: 1.5mm; Supplier Part Number 1: WM20820CT-ND; Family: CLIK-Mate
footprint MOLEX-5031482490 (Molex 5031482490 24 pin 1.5 mm pitch SMD RA connector)
pins: 0, 1, 2, 3, 4, 5, 6, 7, 8, 9, 10, 11, 12, 13, 14, 15, 16, 17, 18, 19, 20, 21, 22, 23, 24

## CON_MICROUSB_VERT
designator J?  Manufacturer Part Number 1: 614105150721  (hidden comment: CON_MICROUSB_VERT)
CONN RCPT USB2.0 MICRO B VERT; Manufacturer 1: Wurth Electronics; Package/Footprint: SMD; Supplier Part Number 1: 732-5958-1-ND; Supplier 1: Digi-Key; Mounting Type: SMD
footprint USB_CON (WURTH_614105150721)
pins: 1, 2, 3, 4, 5, SH1 SHIELD, SH2 SHIELD

## CON_PJ-102B
designator J?  Manufacturer Part Number 1: PJ-102B  (hidden comment: CON_PJ-102B)
CONN PWR JACK 2.5X5.5MM SOLDER; Manufacturer 1: CUI Devices; Package/Footprint: TH; Supplier 1: Digi-Key; Mounting Type: TH; Supplier Part Number 1: CP-102B-ND
footprint CUI_PJ-102B
pins: 1, 2, 3

## CON_POWER_JACK
designator J?  Manufacturer Part Number 1: PJ-082BH
CONN PWR JACK 2.5X5.5MM SOLDER; Manufacturer 1: CUI Devices; Voltage Rating: 24VDC; Current Rating: 10A; Supplier 1: Digi-Key; Supplier Part Number 1: CP-082BHCT-ND
footprint CUI_PJ-082BH
pins: 1, 2

## CON_PROGRAMMING
designator J?  Manufacturer Part Number 1: FTSH-105-01-F-DV-K
CONN HEADER SMD 10POS 1.27MM; Manufacturer 1: Samtec; Supplier 1: Digi-Key; Mounting Type: SMD; Pitch: 1.27mm; Supplier Part Number 1: SAM8796-ND
footprint FTSH-105-01-F-DV-K-P-TR (Samtec programming header 10 positions)
pins: 1, 2, 3, 4, 5, 6, 7, 8, 9, 10

## CON_SD_CARD
designator J?  Manufacturer Part Number 1: DM1AA-SF-PEJ(21)  (hidden comment: CON_SD_CARD)
CONN SD CARD PUSH-PUSH R/A SMD; Manufacturer 1: Hirose Electric Co Ltd; Supplier 1: Digi-Key; Supplier Part Number 1: HR845CT-ND
footprint HRS_DM1AA-SF-PEJ(21)
pins: 1 CD/DAT3, 2 CMD, 3 VSS1 (power), 4 VDD (power), 5 CLK, 6 VSS2 (power), 7 DAT0, 8 DAT1, 9 DAT2, 10 CD, 11 WP, 12 COM, 13 SHIELD

## CON_USB_A_3.0_STACKED
designator J?  Manufacturer Part Number 1: 0484060003
CONN RCPT USB3.0 TYPEA STACK R/A; Manufacturer 1: Molex; Specifications: USB 3.2 Gen 1; Current Rating: 0.25A, 1.8A; Voltage Rating: 30VAC/DC; Number of Ports: 2; Supplier 1: Digi-Key; Supplier Part Number 1: WM10420-ND; Mounting Type: Through Hole, Right Angle
footprint MOLEX_0484060003
pins: 1 VBUS_U1, 2 D-_U1, 3 D+_U1, 4 GND_U1, 5 STDA_SSRX-_U1, 6 STDA_SSRX+_U1, 7 GND_DRAIN_U1, 8 STDA_SSTX-_U1, 9 STDA_SSTX+_U1, 10 VBUS_U2, 11 D-_U2, 12 D+_U2, 13 GND_U2, 14 STDA_SSRX-_U2, 15 STDA_SSRX+_U2, 16 GND_DRAIN_U2, 17 STDA_SSTX-_U2, 18 STDA_SSTX+_U2, S1 SHIELD, S2 SHIELD, S3 SHIELD, S4 SHIELD
text: USB_1; USB_2

## CONN HEADER R/A 4POS 1.25MM
designator J?
Conn Shrouded Header (4 Sides) HDR 4 POS 1.25mm Solder RA Thru-Hole PicoBlade™ Frame; Manufacturer: Molex; Manufacturer Part Number: 53048-0410; Contact Resistance: 20mR; Current Rating: 1A; Voltage Rating: 125V; Number of Positions: 4; Insulation Resistance: 100MR; Gender: Male; Connector Type: Blade Pin; Glow Wire Compliant: Non-compliant; Supplier 1: Digi-Key; RoHS: Yes; Category: Headers and Wire Housings; Stock 1: 17064; Pricing 1: 1=0.50000, 10=0.40100, 80=0.29438, 945=0.23421, 5000=0.20075, 10000=0.18737 (USD); Mount: Through Hole; Case/Package: 0410; Contact Material: Bronze,Tin; Contact Plating: Tin; Color: Natural; Housing Color: Natural; Housing Material: Nylon; Min Operating Temperature: -40°C; Max Operating Temperature: 85°C; Package Quantity: 5000; Number of Rows: 1; Packaging: Tray; Contact Gender: Male; Termination: Solder; Number of Contacts: 4; Orientation: Right Angle; Number of Circuits: 4; Voltage Rating (DC): 125V; Series: PicoBlade; Contact Type: Blade Pin; Pitch: 1.25mm; Depth: 5.5mm; Radiation Hardening: No; REACH SVHC: Unknown; Lead Free: Lead Free; Flammability Rating: UL94 V-0; RoHS Compliant: Yes; ComponentLink1URL: https://datasheet.ciiva.com/11746/0900766b8024e368-11746405.pdf?src-supplier=RSComponents; ComponentLink1Description: https://datasheet.ciiva.com/11746/0900766b8024e368-11746405.pdf?src-supplier=RSComponents; ComponentLink2URL: https://datasheet.ciiva.com/30185/348850530480410-pcb-headers-30185536.pdf?src-supplier=Onlinecomponents.com; ComponentLink2Description: https://datasheet.ciiva.com/30185/348850530480410-pcb-headers-30185536.pdf?src-supplier=Onlinecomponents.com; ComponentLink3URL: https://datasheet.ciiva.com/5157/0530480410-pcb-headers-170930-5157025.pdf?src-supplier=Mouser; ComponentLink3Description: https://datasheet.ciiva.com/5157/0530480410-pcb-headers-170930-5157025.pdf?src-supplier=Mouser; ComponentLink4URL: https://datasheet.ciiva.com/14156/gg116847-116860-e-14156218.pdf?src-supplier=Distrelec; ComponentLink4Description: https://datasheet.ciiva.com/14156/gg116847-116860-e-14156218.pdf?src-supplier=Distrelec; ComponentLink5URL: https://datasheet.ciiva.com/10090/0530480410-pcb-headers-10090535.pdf?src-supplier=Avnet; ComponentLink5Description: https://datasheet.ciiva.com/10090/0530480410-pcb-headers-10090535.pdf?src-supplier=Avnet
pins: 1   , 2, 3, 4

## CONN M.2 FEMALE 67POS 0.020 GOLD
designator J?  (value not drawn)
Card Edge Connector, 67 Contact(s), 2 Row(s), Female, Right Angle, 0.019 inch Pitch, Locking, Black Insulator, Socket; Manufacturer: TE Connectivity; Manufacturer Part Number: 1-2199119-5; Supplier 1: Digi-Key; Supplier Part Number 1: A115902CT-ND; RoHS: Yes; Category: Card Edge Connectors; Stock 1: 13599; Pricing 1: 1=1.28000, 10=1.12400, 25=1.05760, 50=1.01340, 100=0.96940, 250=0.88128, 500=0.79314 (USD); Connector Type: CARD EDGE CONNECTOR; REACH SVHC: Yes; RoHS Compliant: Yes; ComponentLink1URL: https://datasheet.ciiva.com:443/pdfs/VipMasterIC/IC/TYEL/TYEL-S-A0008646546/TYEL-S-A0008667243-1.pdf?src-supplier=IHS+Markit; ComponentLink1Description: https://datasheet.ciiva.com:443/pdfs/VipMasterIC/IC/TYEL/TYEL-S-A0008646546/TYEL-S-A0008667243-1.pdf?src-supplier=IHS+Markit; ComponentLink2URL: https://datasheet.ciiva.com/18495/eng-cd-2199119-c-c-2199119-c-18495963.pdf?src-supplier=Digi-Key; ComponentLink2Description: https://datasheet.ciiva.com/18495/eng-cd-2199119-c-c-2199119-c-18495963.pdf?src-supplier=Digi-Key; ComponentLink3URL: https://datasheet.ciiva.com/18495/eng-cd-2199119-c-c-2199119-c-18495964.pdf?src-supplier=Digi-Key; ComponentLink3Description: https://datasheet.ciiva.com/18495/eng-cd-2199119-c-c-2199119-c-18495964.pdf?src-supplier=Digi-Key; ComponentLink4URL: https://datasheet.ciiva.com/18495/eng-cd-2199119-c-c-2199119-c-18495965.pdf?src-supplier=Digi-Key; ComponentLink4Description: https://datasheet.ciiva.com/18495/eng-cd-2199119-c-c-2199119-c-18495965.pdf?src-supplier=Digi-Key
footprint TE_2199119-4
pins: 1 GND, 2 3V3, 3 GND, 4 3V3, 5 PER3_N, 6 NC, 7 PER3_P, 8 NC, 9 GND, 10 LED, 11 PET3_N, 12 3V3, 13 PET3_P, 14 3V3, 15 GND, 16 3V3, 17 PER2_N, 18 3V3, 19 PER2_P, 20 NC, 21 GND, 22 NC, 23 PET2_N, 24 NC, 25 PET2_P, 26 NC, 27 GND, 28 NC, 29 PER1_N, 30 NC, 31 PER1_P, 32 NC, 33 GND, 34 NC, 35 PET1_N, 36 NC, 37 PET1_P, 38 NC, 39 GND, 40 SMB_CLK, 41 PER0_N, 42 SMB_DATA, 43 PER0_P, 44 ALERT, 45 GND, 46 NC, 47 PET0_N, 48 NC, 49 PET0_P, 50 PERST#, 51 GND, 52 CLKREQ#, 53 REFCLK_N, 54 PEWAKE#, 55 REFCLK_P, 56 NC, 57 GND, 58 NC, 59 KEYM, 60 KEYM, 61 KEYM, 62 KEYM, 63 KEYM, 64 KEYM, 65 KEYM, 66 KEYM, 67 NC, 68 SUSCLK(32kHz), 69 NC, 70 3V3, 71 GND, 72 3V3, 73 GND, 74 3V3, 75 GND

## CONN_0039293026
designator J?  Manufacturer Part Number 1: 0039293026  Family: Mini-Fit Jr
CONN HEADER VERT 2POS MINI-FIT; Manufacturer 1: Molex; Package/Footprint: TH; Supplier 1: Digi-Key; Mounting Type: TH; Supplier Part Number 1: WM3843-ND; Verified: No
footprint 0039293026
pins: 1, 2

## CONN_0430451600
designator J?
Connector 16 Pin AJX; Manufacturer_Name: Molex; Manufacturer Part Number 1: 0430451600; Datasheet Link: https://www.molex.com/pdm_docs/sd/430451600_sd.pdf; Height: 9.02mm; Arrow Part Number: 0430451600; Arrow Price/Stock: https://www.arrow.com/en/products/0430451600/molex
footprint 0430451600
pins: 1, 2, 3, 4, 5, 6, 7, 8, 9, 10, 11, 12, 13, 14, 15, 16

## CONN_MICROUSB_RIGHTANGLE
designator J?  Manufacturer Part Number 1: 629105136821
CONN RCPT USB2.0 MICRO B SMD R/A; Manufacturer 1: Wurth Elektronik; Supplier 1: Digi-Key; Supplier Part Number 1: 732-3155-1-ND
footprint 629105136821 (Micro USB 2.0 SMT Type B Horizontal 5 Contacts)
pins: 1 VBUS, 2 D-, 3 D+, 4 ID, 5 GND, Shell Shield

## CONN_SCREW_TERM_115A
designator J?  Manufacturer Part Number 1: 0399200302  (hidden comment: CONN_SCREW_TERM_115A)
CONN TERM BLOCK 2POS 15MM 1-8AWG; Manufacturer 1: Molex; Pitch: 0.591inch; Wire Gauge (Max): 8AWG; Wire Gauge (Min): 1AWG; Supplier 1: Digi-Key; Supplier Part Number 1: WM20114-ND
footprint MOLEX-0399200302 (CONN, 4-Leads, Body 10.01x8.18mm, Pitch 2.54mm)
pins: 1, 2

## CONN_SIP_6
designator P?, comment CONN_TERMINAL_6  (value not drawn)
Header, 6-Pin, SIP
footprint CONN_6POS_SIP
pins: 1, 2, 3, 4, 5, 6

## CONN_TERMINAL_2
designator P?  (value not drawn)
Header, 2-Pin; Manufacturer Part Number 1: OSTYK51102030; Manufacturer 1: On Shore Technology Inc.; Supplier Part Number 1: ED2953-ND; Supplier 1: Digi-Key
footprint OSTYK51102030 (Connector; Header; 2 Position)
pins: 1, 2

## CONN_TERMINAL_2_SCREW
designator *
ComponentLink1Description: New link; ComponentLink1URL: https://www.digikey.ca/en/products/detail/phoenix-contact/1935161/568614
footprint Model Name (Footprint not found)
pins: 1, 2

## CONN_TERMINAL_3
designator *
Header, 3-Pin; Manufacturer 1: Ningbo Kangnex; Manufaturer Part Number 1: WJ127-5.0-3P; LCSC Number: C8393; Datasheet: https://datasheet.lcsc.com/lcsc/2107141401_Ningbo-Kangnex-Elec-WJ127-5-0-3P_C8393.pdf; Supplier 1: LCSC
footprint WJ127-5.0-3P (3 pin screw terminal)
pins: 1, 2, 3

## CONN_TERMINAL_6
designator P?  (value not drawn)
Header, 6-Pin; Manufacturer 1: On-Shore Technology; Manufacturer Part Number 1: OSTYK51106030; Voltage Rating: 300V; Wire Gauge (Max): 22AWG; Wire Gauge (Min): 10AWG; Supplier 1: Digi-Key; Supplier Part Number 1: ED2957-ND
footprint OSTYK51106030 (Connector; Header; 6 Position)
pins: 1, 2, 3, 4, 5, 6

## CONN_XT90
designator J?  Manufacturer Part Number 1: FIT0588  (hidden comment: CONN_XT90)
HIGH QUALITY GOLD PLATED XT90 MA; Manufacturer 1: DFRobot; Package/Footprint: TH; Supplier 1: Digi-Key; Supplier Part Number 1: 1738-1438-ND; Mounting Type: TH
footprint XT90
pins: 1, 1, 2, 2

## CRYSTAL_25MHZ
designator Y?  Frequency: 25MHz  Manufacturer Part Number 1: CX2520DB25000H0FLJC1  (hidden comment: CRYSTAL_25MHZ)
CRYSTAL 25.0000MHZ 12PF SMD; Manufacturer 1: Kyocera AVX; Mounting Type: SMD; Package/Footprint: SMD; Load Capacitance: 12pF; Supplier 1: Digi-Key; Supplier Part Number 1: 1253-1724-1-ND
footprint SOIC254P1016X440-4N
pins: 1 HOT, 2 GND (power), 3 HOT, 4 NC

## CRYSTAL_25MHZ_20PF
designator Y?  Frequency: 25MHz  Manufacturer Part Number 1: ECS-250-20-33-CKM-TR  (hidden comment: CRYSTAL_25MHZ_20PF)
CRYSTAL 25.0000MHZ 20PF SMD; Manufacturer 1: ECS Inc.; Mounting Type: SMD; Package/Footprint: SMD; Load Capacitance: 20pF; Supplier 1: Digi-Key; Supplier Part Number 1: XC1817CT-ND
footprint XTAL_ECS-250-20-33-CKM-TR
pins: 1 HOT, 2 GND (power), 3 HOT, 4 GND

## CRYSTAL_32.768KHZ
designator Y?  Manufacturer Part Number 1: ECS-327KE-TR
XTAL OSC XO 32.7680KHZ CMOS SMD; Manufacturer 1: ECS Inc.; Voltage - Supply: 1.5V - 5.5V; Current - Supply (Max): 1.5uA; Frequency: 32.768kHz; Supplier 1: Digi-Key; Supplier Part Number 1: XC1751CT-ND
footprint OSC_ECS-327KE-TR
pins: 1 TRI-STATE, 2 GND, 3 OUTPUT, 4 VDD